# EAGLE library part 79107-46 (library con-molex-milli-grid)
RECEPTACAL
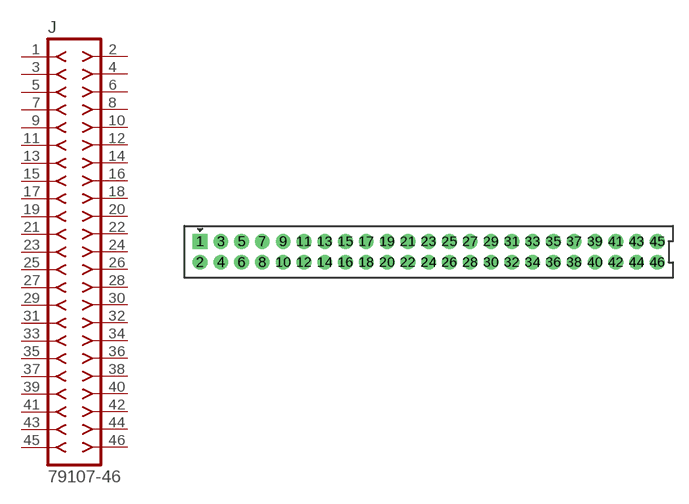
[diagram p157: symbol with the pads of 79107-46; footprint 79107-46]

Designator prefix J

## 79107-46  [79107-46]
1  1  pas
2  2  pas
3  3  pas
4  4  pas
5  5  pas
6  6  pas
7  7  pas
8  8  pas
9  9  pas
10  10  pas
11  11  pas
12  12  pas
13  13  pas
14  14  pas
15  15  pas
16  16  pas
17  17  pas
18  18  pas
19  19  pas
20  20  pas
21  21  pas
22  22  pas
23  23  pas
24  24  pas
25  25  pas
26  26  pas
27  27  pas
28  28  pas
29  29  pas
30  30  pas
31  31  pas
32  32  pas
33  33  pas
34  34  pas
35  35  pas
36  36  pas
37  37  pas
38  38  pas
39  39  pas
40  40  pas
41  41  pas
42  42  pas
43  43  pas
44  44  pas
45  45  pas
46  46  pas

## Footprint 79107-46 (pad centres in mm)
RECEPTACAL Dual Row, Vertical, Through-Hole
drill 0.914 square: 1 -22,1
drill 0.914: 2 -22,-1; 3 -20,1; 4 -20,-1; 5 -18,1; 6 -18,-1; 7 -16,1; 8 -16,-1; 9 -14,1; 10 -14,-1; 11 -12,1; 12 -12,-1; 13 -10,1; 14 -10,-1; 15 -8,1; 16 -8,-1; 17 -6,1; 18 -6,-1; 19 -4,1; 20 -4,-1; 21 -2,1; 22 -2,-1; 23 0,1; 24 0,-1; 25 2,1; 26 2,-1; 27 4,1; 28 4,-1; 29 6,1; 30 6,-1; 31 8,1; 32 8,-1; 33 10,1; 34 10,-1; 35 12,1; 36 12,-1; 37 14,1; 38 14,-1; 39 16,1; 40 16,-1; 41 18,1; 42 18,-1; 43 20,1; 44 20,-1; 45 22,1; 46 22,-1